# EAGLE library part IV-16 (library CasaLibrary)
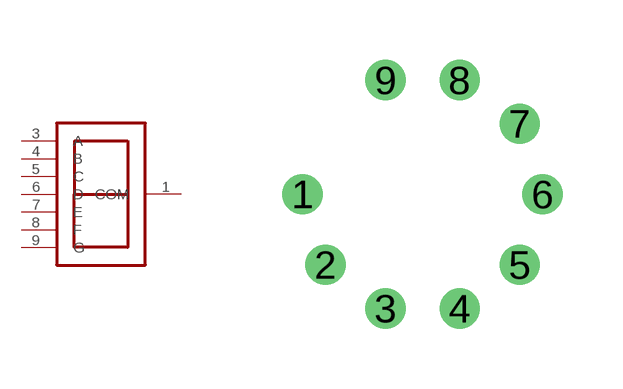
[diagram p2: symbol with the pads of IV-16; footprint IV-16]

Designator prefix -

## IV-16  [IV-16]
1  COM
3  A
4  B
5  C
6  D
7  E
8  F
9  G

## Footprint IV-16 (pad centres in mm)
drill 0.5 pad 1: 1 -3,0; 2 -2.427,-1.763; 3 -0.927,-2.853; 4 0.927,-2.853; 5 2.427,-1.763; 6 3,0; 7 2.427,1.763; 8 0.927,2.853; 9 -0.927,2.853